# Altium footprint library Custom Footprints.PcbLib: 9 footprints
Each footprint in its own frame and in the unit in brackets; x right, y up, seen from the top. Pads: shape width x height; smd on the part's side, far side on the other; paste and mask are expansions set on the pad; w line width, h text height; cw(c..) or ccw(c..) is an arc to the next point about the centre after c.
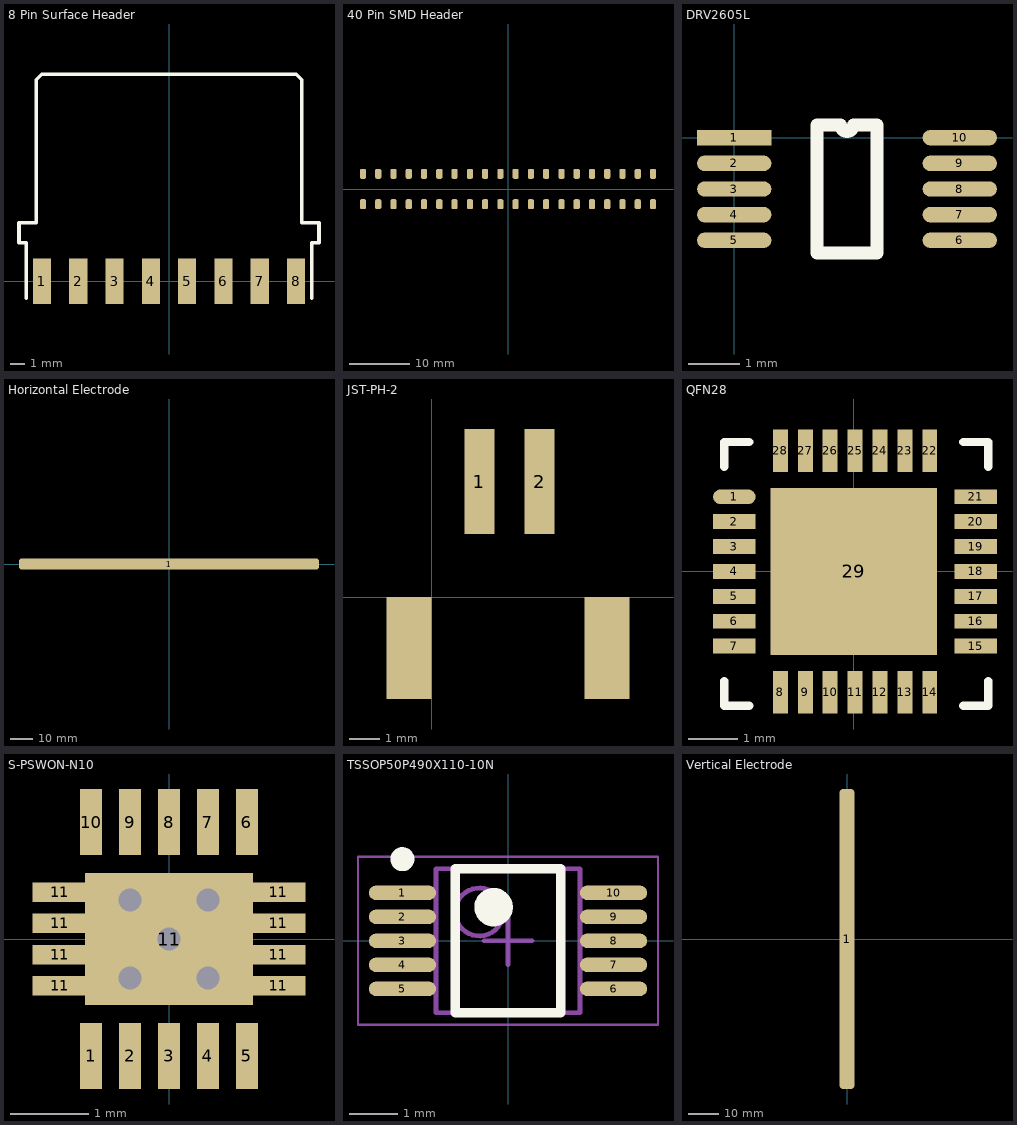
[diagram p0: the footprints below, top view; thin cyan lines are the x and y axes]

## 8 Pin Surface Header [mm]
pads (8):
  rect 1.27x3.18 smd: 1(-8.89,0) 2(-6.35,0) 3(-3.81,0) 4(-1.27,0) 5(1.27,0) 6(3.81,0) 7(6.35,0) 8(8.89,0)
Top Overlay:
  lines w0.254: -10,-1.2 -10,2.7 -10.5,2.7 -10.5,4.1 -10,4.1 -9.3,4.1 -9.3,14.1 -8.91,14.49 -8.89,14.49 8.91,14.49 ; 8.89,14.49 8.91,14.49 ; 10,-1.2 10,2.7 10.5,2.7 10.5,4.1 10,4.1 9.3,4.1 9.3,14.1 8.91,14.49

## 40 Pin SMD Header [mm]
pads (40):
  rrect50% 1.02x1.65 smd: 1(-24.13,2.525) 2(-24.13,-2.525) 3(-21.59,2.525) 4(-21.59,-2.525) 5(-19.05,2.525) 6(-19.05,-2.525) 7(-16.51,2.525) 8(-16.51,-2.525) 9(-13.97,2.525) 10(-13.97,-2.525) 11(-11.43,2.525) 12(-11.43,-2.525) 13(-8.89,2.525) 14(-8.89,-2.525) 15(-6.35,2.525) 16(-6.35,-2.525) 17(-3.81,2.525) 18(-3.81,-2.525) 19(-1.27,2.525) 20(-1.27,-2.525) 21(1.27,2.525) 22(1.27,-2.525) 23(3.81,2.525) 24(3.81,-2.525) 25(6.35,2.525) 26(6.35,-2.525) 27(8.89,2.525) 28(8.89,-2.525) 29(11.43,2.525) 30(11.43,-2.525) 31(13.97,2.525) 32(13.97,-2.525) 33(16.51,2.525) 34(16.51,-2.525) 35(19.05,2.525) 36(19.05,-2.525) 37(21.59,2.525) 38(21.59,-2.525) 39(24.13,2.525) 40(24.13,-2.525)

## DRV2605L [mm]
pads (10):
  rect 1.45x0.3 smd: 1(0,0)
  oval 1.45x0.3 smd: 2(0,-0.5) 3(0,-1) 4(0,-1.5) 5(0,-2) 6(4.4,-2) 7(4.4,-1.5) 8(4.4,-1) 9(4.4,-0.5) 10(4.4,0)
Top Overlay:
  lines w0.254: 1.614,-2.25 1.614,0.25 2.075,0.25 ccw(c2.2,0.25) 2.325,0.25 2.786,0.25 2.786,-2.25 1.614,-2.25

## Horizontal Electrode [mm]
pads (1):
  rrect50% 131x5 smd paste+0 mask-300: 1(0,0)

## JST-PH-2 [mm]
pads (4):
  rect 1x3.5 smd: 1(1.6,3.85) 2(3.6,3.85)
  rect 1.5x3.4 smd: ""(-0.75,-1.7) ""(5.85,-1.7)

## QFN28 [mm]
pads (30):
  oval 0.85x0.3 smd: 1(-2.4,1.5)
  rect 0.85x0.3 smd: 2(-2.4,1) 3(-2.4,0.5) 4(-2.4,0) 5(-2.4,-0.5) 6(-2.4,-1) 7(-2.4,-1.5) 15(2.45,-1.5) 16(2.45,-1) 17(2.45,-0.5) 18(2.45,0) 19(2.45,0.5) 20(2.45,1) 21(2.45,1.5)
  rect 0.3x0.85 smd: 8(-1.475,-2.425) 9(-0.975,-2.425) 10(-0.475,-2.425) 11(0.025,-2.425) 12(0.525,-2.425) 13(1.025,-2.425) 14(1.525,-2.425) 22(1.525,2.425) 23(1.025,2.425) 24(0.525,2.425) 25(0.025,2.425) 26(-0.475,2.425) 27(-0.975,2.425) 28(-1.475,2.425)
  rect 3.35x3.35 smd: 29(0,0)
  rrect50% 0.3x0.3 on Top Overlay: ""(-3,3)
Top Overlay:
  lines w0.17: -2.6,-2.2 -2.6,-2.7 -2.1,-2.7 ; -2.6,2.1 -2.6,2.6 -2.1,2.6 ; 2.2,-2.7 2.7,-2.7 2.7,-2.2 ; 2.2,2.6 2.7,2.6 2.7,2.1

## S-PSWON-N10 [mm]
pads (19):
  rect 0.28x0.85 smd: 1(-1,-1.5) 2(-0.5,-1.5) 3(0,-1.5) 4(0.5,-1.5) 5(1,-1.5) 6(1,1.5) 7(0.5,1.5) 8(0,1.5) 9(-0.5,1.5) 10(-1,1.5)
  rect 0.7x0.25 smd: 11(-1.4,-0.6) 11(-1.4,-0.2) 11(-1.4,0.2) 11(-1.4,0.6) 11(1.4,-0.6) 11(1.4,-0.2) 11(1.4,0.2) 11(1.4,0.6)
  rect 2.15x1.7 smd: 11(0,0)
via 0,0 diameter 0.4 hole 0.3
via 0.5,0.5 diameter 0.4 hole 0.3
via -0.5,0.5 diameter 0.4 hole 0.3
via -0.5,-0.5 diameter 0.4 hole 0.3
via 0.5,-0.5 diameter 0.4 hole 0.3

## TSSOP50P490X110-10N [mm] "TSSOP, 10-Leads, Body 3.00x3.00mm, Pitch 0.50mm, IPC Medium Density"
height 1.1
pads (10):
  oval 1.4x0.3 smd: 1(-2.2,1) 2(-2.2,0.5) 3(-2.2,0) 4(-2.2,-0.5) 5(-2.2,-1) 6(2.2,-1) 7(2.2,-0.5) 8(2.2,0) 9(2.2,0.5) 10(2.2,1)
Top Overlay:
  circle w0.4: c-0.3,0.7 r0.2
  circle w0.25: c-2.2,1.7 r0.125
  lines w0.2: -1.1,-1.5 1.1,-1.5 1.1,1.5 -1.1,1.5 -1.1,-1.5
Mechanical 13:
  circle w0.1: c-0.6,0.6 r0.5
  lines w0.1: -1.5,-1.5 1.5,-1.5 1.5,1.5 -1.5,1.5 -1.5,-1.5
Mechanical 15:
  lines w0.05: -3.125,-1.75 3.125,-1.75 3.125,1.75 -3.125,1.75 -3.125,-1.75
  lines w0.1: -0.5,0 0.5,0 ; 0,-0.5 0,0.5
3D body: height 1.1, standoff 0.15, extent -1.5,-1.5 1.5,1.5

## Vertical Electrode [mm]
pads (1):
  rrect50% 5x98.7 smd paste+0 mask-300: 1(0,0)